# EAGLE library part BQ25504 (library bq25504)
Ultra Low Power Boost Converter with Battery Management for Energy Harvester Applications
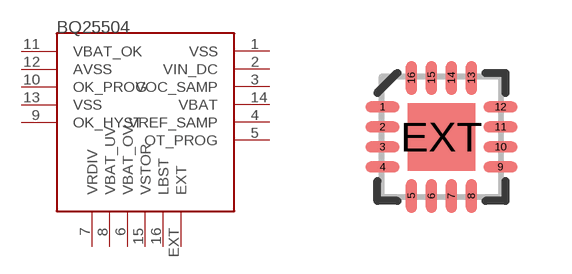
[diagram p1: symbol with the pads of QFN16-3X3MM; footprint QFN16-3X3MM]

Designator prefix -

## BQ25504  [QFN16-3X3MM]
1  VSS
2  VIN_DC
3  VOC_SAMP
4  VREF_SAMP
5  OT_PROG
6  VBAT_OV
7  VRDIV
8  VBAT_UV
9  OK_HYST
10  OK_PROG
11  VBAT_OK
12  AVSS
13  VSS
14  VBAT
15  VSTOR
16  LBST
EXT  EXT

## Footprint QFN16-3X3MM (pad centres in mm)
3mm x 3mm QFN 16 pin
smd 0.85 x 0.28: 1 -1.475,0.75; 2 -1.475,0.25; 3 -1.475,-0.25; 4 -1.475,-0.75; 9 1.475,-0.75; 10 1.475,-0.25; 11 1.475,0.25; 12 1.475,0.75
smd 0.28 x 0.85: 5 -0.75,-1.475; 6 -0.25,-1.475; 7 0.25,-1.475; 8 0.75,-1.475; 13 0.75,1.475; 14 0.25,1.475; 15 -0.25,1.475; 16 -0.75,1.475
smd 1.68 x 1.68: EXT 0,0